# EAGLE library part XCF01SVOG20C (library Spartan2Bone)
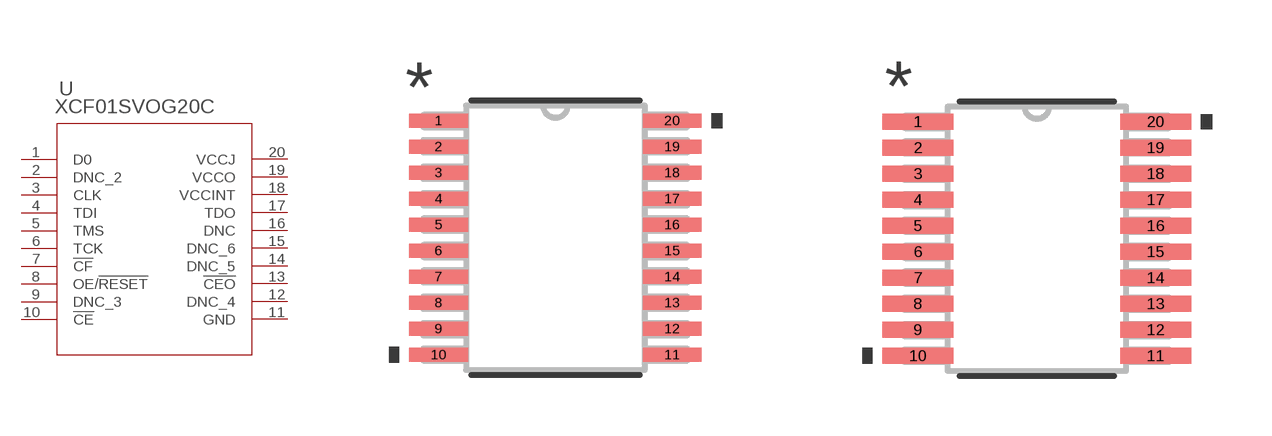
[diagram p1: symbol with the pads of 20-TSSOP; footprints 20-TSSOP, 20-TSSOP-M]

Designator prefix -

## XCF01SVOG20C (MANUFACTURER_PART_NUMBER: XCF01SVOG20C; VENDOR: Xilinx Inc)  [20-TSSOP]
1  D0  pas
2  DNC_2  pas
3  CLK  pas
4  TDI  pas
5  TMS  pas
6  TCK  pas
7  !CF  pas
8  OE/!RESET  pas
9  DNC_3  pas
10  !CE  pas
11  GND  pas
12  DNC_4  pas
13  !CEO  pas
14  DNC_5  pas
15  DNC_6  pas
16  DNC  pas
17  TDO  pas
18  VCCINT  pas
19  VCCO  pas
20  VCCJ  pas

## XCF01SVOG20C20-TSSOP-M (MANUFACTURER_PART_NUMBER: XCF01SVOG20C; VENDOR: Xilinx Inc)  [20-TSSOP-M]
Pads as for 20-TSSOP

## XCF01SVOG20C20-TSSOP-L (MANUFACTURER_PART_NUMBER: XCF01SVOG20C; VENDOR: Xilinx Inc)  [20-TSSOP-L]
Pads as for 20-TSSOP

## Footprint 20-TSSOP (pad centres in mm)
smd 1.473 x 0.356: 1 -2.921,2.926; 2 -2.921,2.276; 3 -2.921,1.626; 4 -2.921,0.975; 5 -2.921,0.325; 6 -2.921,-0.325; 7 -2.921,-0.975; 8 -2.921,-1.626; 9 -2.921,-2.276; 10 -2.921,-2.926; 11 2.921,-2.926; 12 2.921,-2.276; 13 2.921,-1.626; 14 2.921,-0.975; 15 2.921,-0.325; 16 2.921,0.325; 17 2.921,0.975; 18 2.921,1.626; 19 2.921,2.276; 20 2.921,2.926

## Footprint 20-TSSOP-M (pad centres in mm)
smd 1.778 x 0.406: 1 -2.972,2.926; 2 -2.972,2.276; 3 -2.972,1.626; 4 -2.972,0.975; 5 -2.972,0.325; 6 -2.972,-0.325; 7 -2.972,-0.975; 8 -2.972,-1.626; 9 -2.972,-2.276; 10 -2.972,-2.926; 11 2.972,-2.926; 12 2.972,-2.276; 13 2.972,-1.626; 14 2.972,-0.975; 15 2.972,-0.325; 16 2.972,0.325; 17 2.972,0.975; 18 2.972,1.626; 19 2.972,2.276; 20 2.972,2.926

## Footprint 20-TSSOP-L (pad centres in mm)
smd 1.168 x 0.305: 1 -2.87,2.926; 2 -2.87,2.276; 3 -2.87,1.626; 4 -2.87,0.975; 5 -2.87,0.325; 6 -2.87,-0.325; 7 -2.87,-0.975; 8 -2.87,-1.626; 9 -2.87,-2.276; 10 -2.87,-2.926; 11 2.87,-2.926; 12 2.87,-2.276; 13 2.87,-1.626; 14 2.87,-0.975; 15 2.87,-0.325; 16 2.87,0.325; 17 2.87,0.975; 18 2.87,1.626; 19 2.87,2.276; 20 2.87,2.926